# Altium schematic symbol library PNP.SchLib: 1 symbol
Pins are listed as number, name and electrical type; pins without a type are passive.

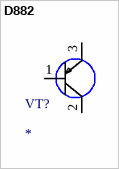
[diagram p0: symbol D882]

## D882
designator VT?
footprint B772 (Footprint not found)
pins: 1 B, 2 C, 3 E